# EAGLE library part DRV8825PWP (library IC)
IC MTR DRVR BIPLR 8.2-45V 28SSOP Manufacturer's datasheet <http://www.ti.com/general/docs/suppproductinfo.tsp?distId=10&gotoUrl=http%3A%2F%2Fwww.ti.com%2Flit%2Fgpn%2Fdrv8825>
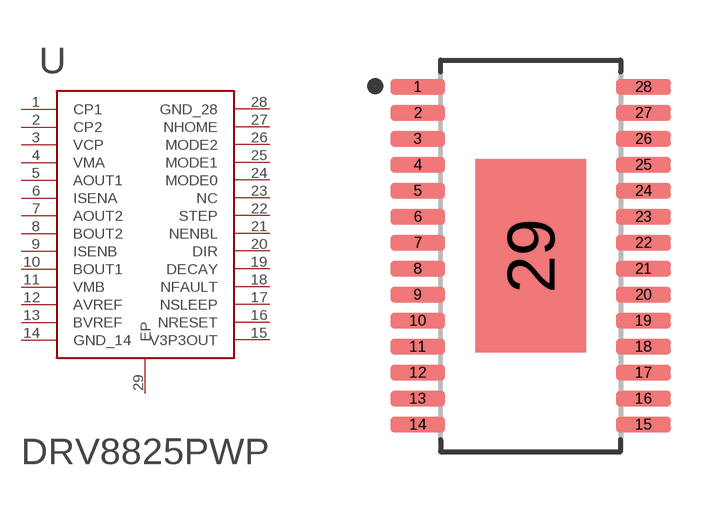
[diagram p42: symbol with the pads of 28-HTSSOP; footprint 28-HTSSOP]

Designator prefix U

## DRV8825PWP (CREATED_BY: PCBLayout.com; DIGIKEY_PART_NUMBER: 296-28915-5-ND; MANUFACTURER: Texas Instruments; MPN: DRV8825PWP; PACKAGE: 28-HTSSOP)  [28-HTSSOP]
1  CP1
2  CP2
3  VCP
4  VMA  pwr
5  AOUT1  out
6  ISENA
7  AOUT2  out
8  BOUT2  out
9  ISENB
10  BOUT1  out
11  VMB  pwr
12  AVREF  in
13  BVREF  in
14  GND_14  pwr
15  V3P3OUT  out
16  NRESET  in
17  NSLEEP  in
18  NFAULT  pas
19  DECAY  in
20  DIR  in
21  NENBL  in
22  STEP  in
23  NC  pas
24  MODE0  in
25  MODE1  in
26  MODE2  in
27  NHOME  pas
28  GND_28  pwr
29  EP  pwr

## Footprint 28-HTSSOP (pad centres in mm)
Small Outline Pkg (SOP with Tab), 0.65 mm pitch; 28 pin, 9.70 mm L X 4.40 mm W X 1.20 mm H body PCB Libraries Packages
smd 1.37 x 0.39: 1 -2.82,4.225; 2 -2.82,3.575; 3 -2.82,2.925; 4 -2.82,2.275; 5 -2.82,1.625; 6 -2.82,0.975; 7 -2.82,0.325; 8 -2.82,-0.325; 9 -2.82,-0.975; 10 -2.82,-1.625; 11 -2.82,-2.275; 12 -2.82,-2.925; 13 -2.82,-3.575; 14 -2.82,-4.225; 15 2.82,-4.225; 16 2.82,-3.575; 17 2.82,-2.925; 18 2.82,-2.275; 19 2.82,-1.625; 20 2.82,-0.975; 21 2.82,-0.325; 22 2.82,0.325; 23 2.82,0.975; 24 2.82,1.625; 25 2.82,2.275; 26 2.82,2.925; 27 2.82,3.575; 28 2.82,4.225
smd 2.75 x 4.83: 29 0,0